# Altium footprint library Adjustable Resistors.PcbLib: 1 footprints
Each footprint in its own frame and in the unit in brackets; x right, y up, seen from the top. Pads: shape width x height; smd on the part's side, far side on the other; paste and mask are expansions set on the pad; w line width, h text height; cw(c..) or ccw(c..) is an arc to the next point about the centre after c.
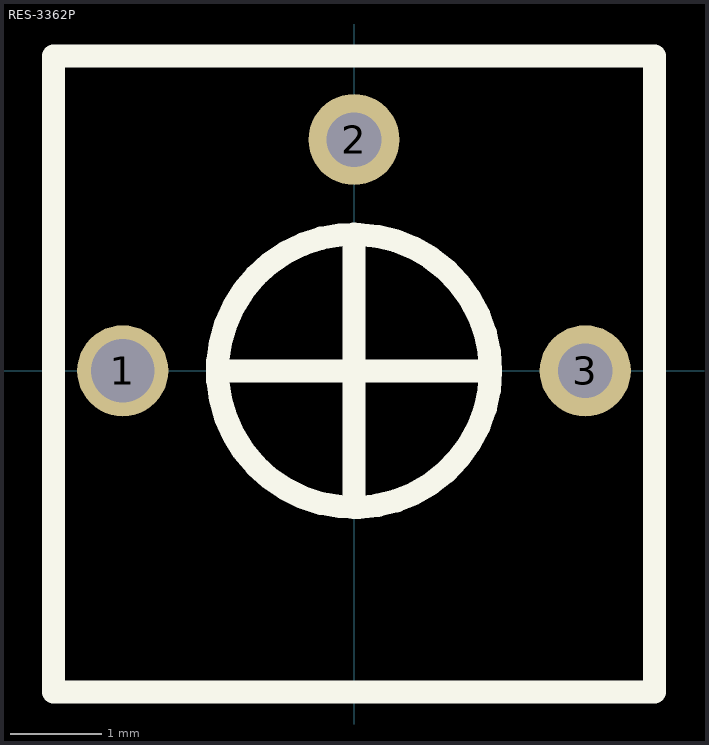
[diagram p0: the footprint, top view; thin cyan lines are the x and y axes]

## RES-3362P [mm] "RES-3362P"
pads (3):
  round 1 hole 0.7: 1(-2.54,0)
  round 1 hole 0.6: 2(0,2.54) 3(2.54,0)
Top Overlay:
  circle w0.254: c0,0 r1.5
  lines w0.254: -1.5,0 1.5,0 ; 0,-1.5 0,1.5 ; -3.3,-3.53 -3.3,3.46 3.3,3.46 3.3,-3.53 -3.3,-3.53
3D body: height 4.7, standoff 0.33, extent -3.3,-3.525 3.3,3.45